# Altium schematic symbol library FOD050L.SchLib: 1 symbol
Pins are listed as number, name and electrical type; pins without a type are passive.

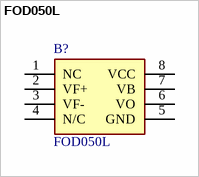
[diagram p0: symbol FOD050L]

## FOD050L
designator B?
DIN-EN/IEC60747-5-5, 565 V Peak Working Insulation Voltage; Safety and Regulatory Approvals:; UL1577, 2,500 VACRMS for 1 Minute; Available in Single-channel 8-pin SOIC (FOD050L) or Dual-channel 8-pin SOIC (FOD053L);; Manufacturer_Name: onsemi; Geometry.Height: 3.63mm; Manufacturer_Part_Number: FOD050L; Mouser Part Number: 512-FOD050L; Mouser Price/Stock: https://www.mouser.co.uk/ProductDetail/onsemi-Fairchild/FOD050L?qs=ReZUMDdiXnRPjBKyX9bkKw%3D%3D; Arrow Part Number: FOD050L; Arrow Price/Stock: https://www.arrow.com/en/products/fod050l/on-semiconductor?region=nac; Datasheet Link: https://www.onsemi.com/pub/Collateral/FOD053L-D.PDF
footprint SOIC127P594X363-8N
pins: 1 NC, 2 VF+, 3 VF-, 4 N/C, 5 GND, 6 VO, 7 VB, 8 VCC